# EAGLE library part SN74HC595D (library 74hc595)
74HC595 Shift Register SOIC16 Package Variant
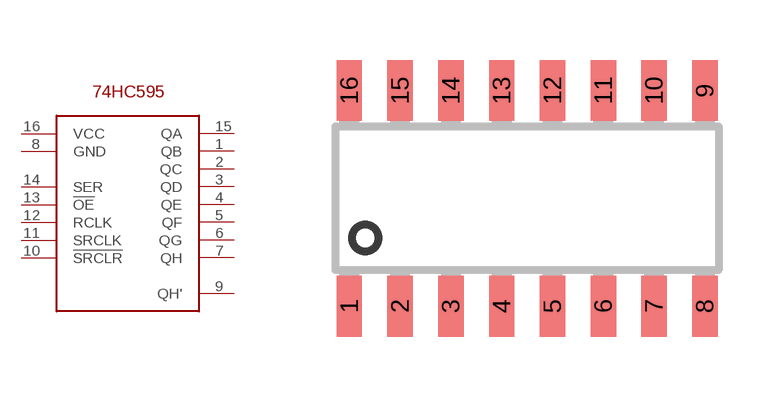
[diagram p0: symbol with the pads of SOIC16; footprint SOIC16]

Designator prefix -

## SN74HC595D  [SOIC16]
1  QB  out
2  QC  out
3  QD  out
4  QE  out
5  QF  out
6  QG  out
7  QH  out
8  GND  pwr
9  QH'  out
10  !SRCLR  in
11  SRCLK  in
12  RCLK  in
13  !OE  in
14  SER  in
15  QA  out
16  VCC  pwr

## Footprint SOIC16 (pad centres in mm)
SMALL OUTLINE INTEGRATED CIRCUIT 16-Pin (150-Mil) SOIC Source: http://www.cypress.com .. 38-12025_0P_V.pdf
smd 0.635 x 1.524: 1 -4.445,-2.695; 2 -3.175,-2.695; 3 -1.905,-2.695; 4 -0.635,-2.695; 5 0.635,-2.695; 6 1.905,-2.695; 7 3.175,-2.695; 8 4.445,-2.695; 9 4.445,2.695; 10 3.175,2.695; 11 1.905,2.695; 12 0.635,2.695; 13 -0.635,2.695; 14 -1.905,2.695; 15 -3.175,2.695; 16 -4.445,2.695